# Altium footprint library Logic.PcbLib: 5 footprints
Each footprint in its own frame and in the unit in brackets; x right, y up, seen from the top. Pads: shape width x height; smd on the part's side, far side on the other; paste and mask are expansions set on the pad; w line width, h text height; cw(c..) or ccw(c..) is an arc to the next point about the centre after c.
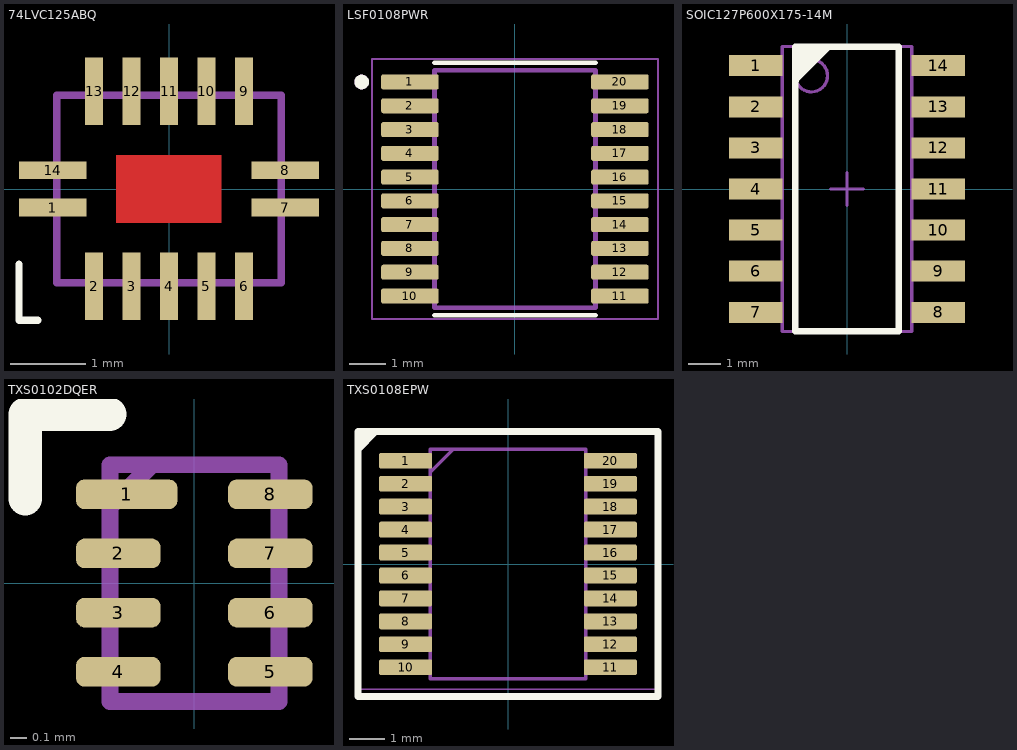
[diagram p0: the footprints below, top view; thin cyan lines are the x and y axes]

## 74LVC125ABQ [mm] "IC BUF NON-INVERT 3.6V 14DHVQFN"
pads (14):
  rect 0.9x0.24 smd: 1(-1.55,-0.25) 7(1.55,-0.25) 8(1.55,0.25) 14(-1.55,0.25)
  rect 0.24x0.9 smd: 2(-1,-1.3) 3(-0.5,-1.3) 4(0,-1.3) 5(0.5,-1.3) 6(1,-1.3) 9(1,1.3) 10(0.5,1.3) 11(0,1.3) 12(-0.5,1.3) 13(-1,1.3)
Top Layer:
  region: -0.7,-0.45 0.7,-0.45 0.7,0.45 -0.7,0.45
Top Overlay:
  lines w0.1: -2,-1 -2,-1.75 -1.75,-1.75
Mechanical 13:
  lines w0.1: -1.5,-1.25 1.5,-1.25 1.5,1.25 -1.5,1.25 -1.5,-1.25
3D body "74LVC125ABQ,115.stp": height 0.85, standoff 0, extent -1.498,-1.25 1.504,1.252

## LSF0108PWR [mm]
pads (20):
  rrect25% 1.57x0.41 smd: 1(-2.87,2.925) 2(-2.87,2.275) 3(-2.87,1.625) 4(-2.87,0.975) 5(-2.87,0.325) 6(-2.87,-0.325) 7(-2.87,-0.975) 8(-2.87,-1.625) 9(-2.87,-2.275) 10(-2.87,-2.925) 11(2.87,-2.925) 12(2.87,-2.275) 13(2.87,-1.625) 14(2.87,-0.975) 15(2.87,-0.325) 16(2.87,0.325) 17(2.87,0.975) 18(2.87,1.625) 19(2.87,2.275) 20(2.87,2.925)
Top Overlay:
  circle w0.2: c-4.19,2.925 r0.1
  lines w0.127: -2.2,-3.45 2.2,-3.45 ; -2.2,3.45 2.2,3.45
Mechanical 13:
  circle w0.2: c-4.19,2.925 r0.1
  lines w0.127: -2.2,-3.25 -2.2,3.25 2.2,3.25 2.2,-3.25 -2.2,-3.25
Mechanical 15:
  lines w0.05: -3.91,-3.55 -3.91,3.55 3.91,3.55 3.91,-3.55 -3.91,-3.55
3D body "LSF0108PWR.STEP": height 1.2, standoff 0, extent -3.2,-3.25 3.2,3.25

## SOIC127P600X175-14M [mm] "SOIC, 14-Leads, Body 8.65x3.90mm, Pitch 1.27mm, IPC Low Density"
height 1.75
pads (14):
  rect 1.65x0.65 smd: 1(-2.825,3.81) 2(-2.825,2.54) 3(-2.825,1.27) 4(-2.825,0) 5(-2.825,-1.27) 6(-2.825,-2.54) 7(-2.825,-3.81) 8(2.825,-3.81) 9(2.825,-2.54) 10(2.825,-1.27) 11(2.825,0) 12(2.825,1.27) 13(2.825,2.54) 14(2.825,3.81)
Top Overlay:
  lines w0.2: -1.581,3.349 -1.581,3.384 -0.575,4.389 ; -1.269,4.326 -1.28,4.337 -1.422,4.337 -1.543,4.216 -1.543,4.041 -1.269,4.315 -1.115,4.315 -1.477,3.953 -1.477,3.755 -0.896,4.337 -0.775,4.337 -0.742,4.37 -0.742,4.303 -1.586,3.459 ; -1.587,3.459 -1.586,3.459 ; -1.6,-4.4 1.6,-4.4 1.6,4.4 -1.6,4.4 -1.6,-4.4
Mechanical 13:
  circle w0.1: c-1.1,3.5 r0.5
  lines w0.1: -2,-4.4 2,-4.4 2,4.4 -2,4.4 -2,-4.4
Mechanical 15:
  lines w0.1: -0.5,0 0.5,0 ; 0,-0.5 0,0.5
3D body "SOIC127P600X175-14M.step": height 1.75, standoff 0, extent -3,-4.4 3,4.4

## TXS0102DQER [mm] "Voltage Level Translator Bidirectional 1 Circuit 2 Channel 24Mbps 8-X2SON (1.4x1)"
pads (8):
  rrect57% 0.6x0.175 smd mask+0.05: 1(-0.4,0.525)
  rrect57% 0.5x0.175 smd mask+0.05: 2(-0.45,0.175) 3(-0.45,-0.175) 4(-0.45,-0.525) 5(0.45,-0.525) 6(0.45,-0.175) 7(0.45,0.175) 8(0.45,0.525)
Top Overlay:
  lines w0.2: -1,0.5 -1,1 -0.5,1
Mechanical 13:
  lines w0.1: -0.5,0.45 -0.25,0.7 ; -0.5,-0.7 0.5,-0.7 0.5,0.7 -0.5,0.7 -0.5,-0.7
3D body "TXS0102DQER.stp": height 0.4, standoff 0, extent -0.5,-0.7 0.5,0.7

## TXS0108EPW [mm] "Voltage Level Translator Bidirectional 1 Circuit 8 Channel 60Mbps 20-TSSOP"
pads (20):
  rrect22% 1.5x0.45 smd mask+0.05: 1(-2.9,2.925) 2(-2.9,2.275) 3(-2.9,1.625) 4(-2.9,0.975) 5(-2.9,0.325) 6(-2.9,-0.325) 7(-2.9,-0.975) 8(-2.9,-1.625) 9(-2.9,-2.275) 10(-2.9,-2.925) 11(2.9,-2.925) 12(2.9,-2.275) 13(2.9,-1.625) 14(2.9,-0.975) 15(2.9,-0.325) 16(2.9,0.325) 17(2.9,0.975) 18(2.9,1.625) 19(2.9,2.275) 20(2.9,2.925)
Top Overlay:
  lines w0.2: -4.25,3.25 -3.75,3.75 -4.25,3.5 ; -4.25,-3.75 -4.25,3.75 4.25,3.75 4.25,-3.75 -4.25,-3.75
Mechanical 13:
  lines w0.1: -2.2,2.6 -1.55,3.25 ; -2.2,-3.25 -2.2,3.25 2.2,3.25 2.2,-3.25 -2.2,-3.25
Mechanical 15:
  lines w0.05: -4.25,-3.55 -4.25,3.75 4.25,3.75 4.25,-3.55 -4.25,-3.55
3D body "TXS0108EPWR.stp": height 1.13, standoff 0, extent -3.2,-3.25 3.2,3.25